# Altium footprint library Mixed_Signal_Board.PcbLib: 37 footprints (part 1 of 3)
Each footprint in its own frame and in the unit in brackets; x right, y up, seen from the top. Pads: shape width x height; smd on the part's side, far side on the other; paste and mask are expansions set on the pad; w line width, h text height; cw(c..) or ccw(c..) is an arc to the next point about the centre after c.
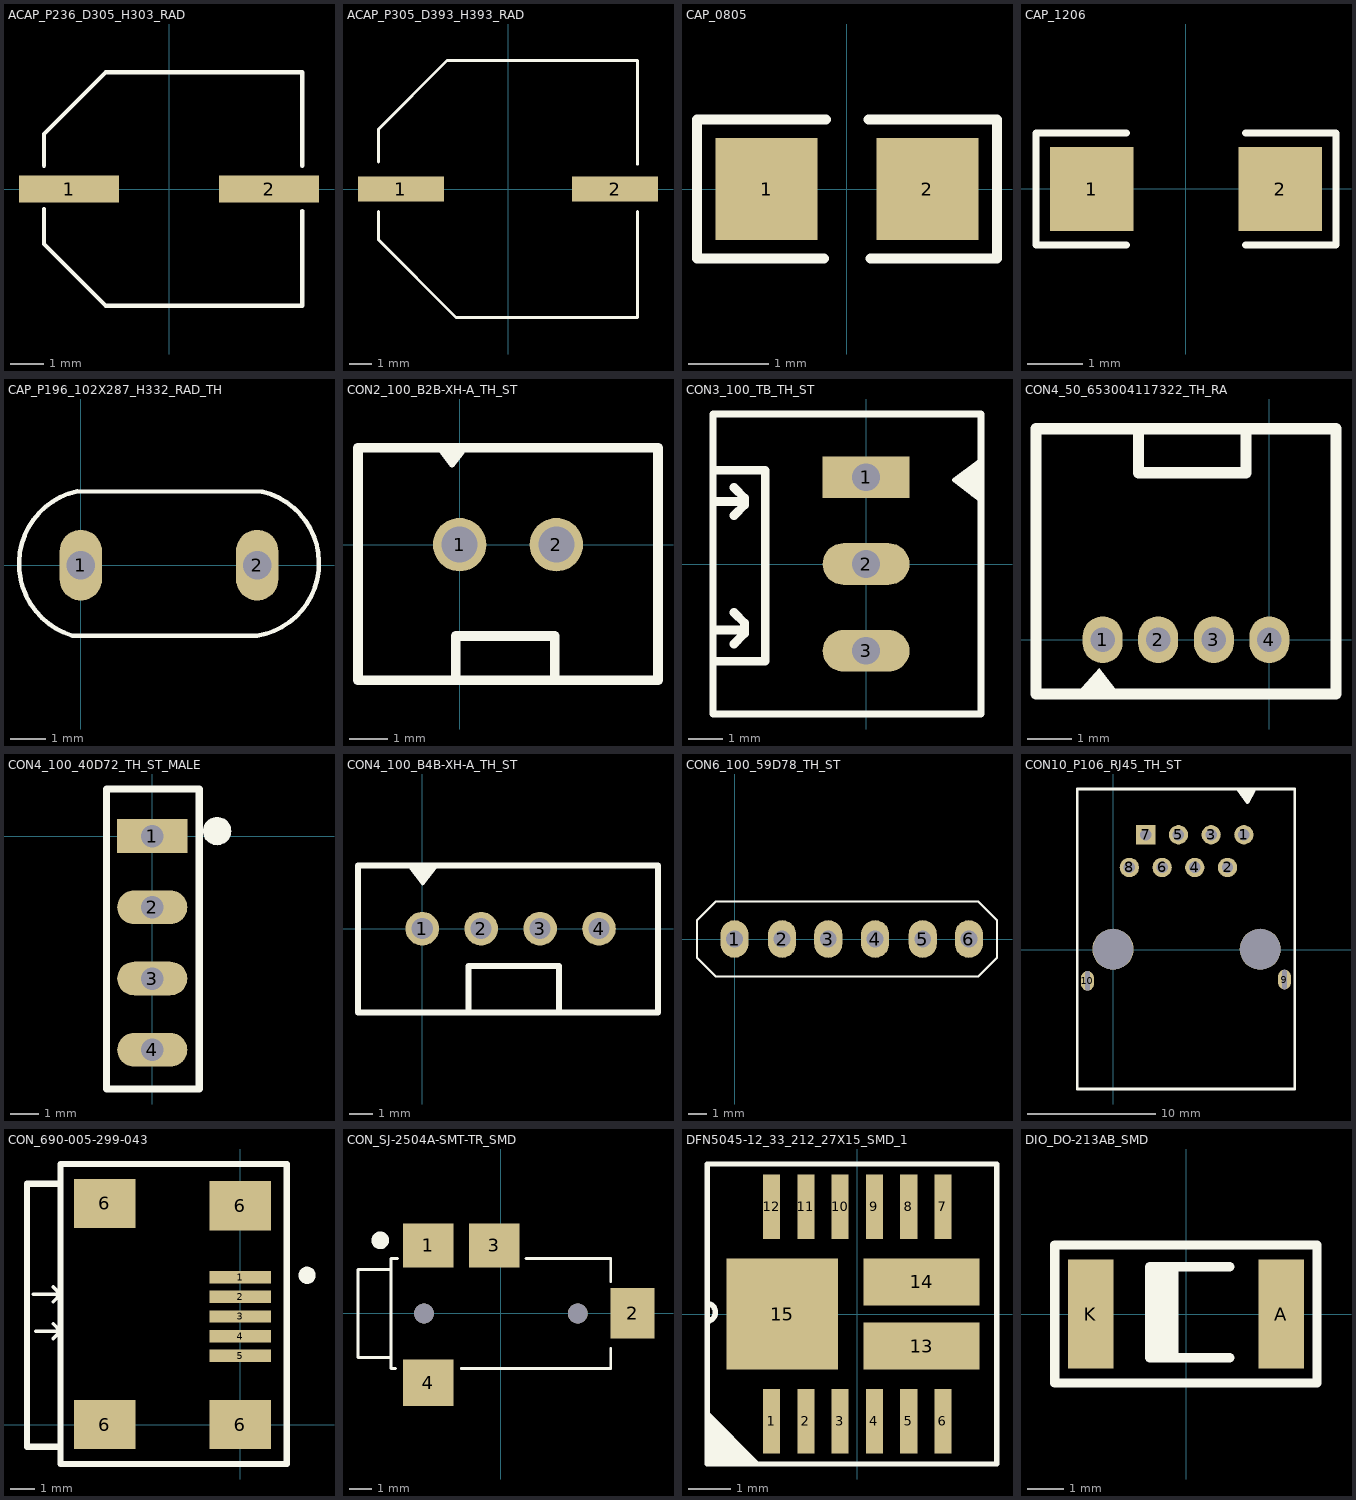
[diagram p0: the footprints below, top view; thin cyan lines are the x and y axes]

## ACAP_P236_D305_H303_RAD [mm]
pads (2):
  rect 3x0.8 smd mask+0.076: 1(-3,0) 2(3,0)
Top Overlay:
  lines w0.127: -3.75,-0.6 -3.75,-1.65 -1.9,-3.5 4,-3.5 4,-1.75 ; -3.75,0.7 -3.75,1.65 -1.9,3.5 0,3.5 4,3.5 4,1.75 ; 4,-1.8 4,-0.66 ; 4,0.7 4,2
3D body "User Library-CC0607.step": height 8.11, standoff 0, extent -3.5,-3.3 3.5,3.3

## ACAP_P305_D393_H393_RAD [mm]
pads (2):
  rect 3.81x1.1 smd: 1(-4.75,0) 2(4.75,0)
Top Overlay:
  lines w0.127: -5.75,-1 -5.75,-2.25 -2.3,-5.7 5.75,-5.7 5.75,-1 ; -5.75,1.2 -5.75,2.65 -2.7,5.7 5.75,5.7 5.75,1.1
3D body "User Library-CC1010.step": height 10.41, standoff 0, extent -5.5,-5.2 5.5,5.2

## CAP_0805 [mm]
pads (2):
  rect 1.27x1.27 smd mask+0.076: 1(-1,0) 2(1,0)
Top Overlay:
  lines w0.127: -0.289,-0.864 -1.864,-0.864 -1.864,0.864 -0.263,0.864 ; 0.27,0.864 1.845,0.864 ; 0.295,-0.864 1.845,-0.864 ; 1.864,-0.864 1.864,0.864
3D body "0805 SMD Capacitor.STEP": height 0.78, standoff 0, extent -1,-0.625 1,0.625

## CAP_1206 [mil]
pads (2):
  rect 60x60 smd: 1(-67.49,-0.2) 2(67.51,-0.2)
Top Overlay:
  lines w5: -42.49,-40.2 -107.49,-40.2 -107.49,39.8 -42.49,39.8 ; 42.51,-40.2 107.51,-40.2 107.51,39.8 42.51,39.8
3D body "1206 SMD Capacitor.STEP": height 39.45, standoff 0, extent -62.99,-31.49 62.99,31.5

## CAP_P196_102X287_H332_RAD_TH [mm]
pads (2):
  oval 1.2x2 hole 0.8 mask+0.076: 1(0,0) 2(5,0)
Top Overlay:
  lines w0.127: -0.243,-1.993 cw(c0.368,0.034) -0.1,2.1 5.131,2.083 ; -0.2,-2 5,-2 ccw(c4.667,0.057) 5.156,2.083
3D body "User Library-CAPML200 (2_5x6_6).step": height 9.14, standoff -3.77, extent -1.037,-1.3 6.037,1.3

## CON2_100_B2B-XH-A_TH_ST [mm]
pads (2):
  round 1.4 hole 0.94: 1(0,0) 2(2.54,0)
Top Overlay:
  region: 0.051,2.464 0.051,2.388 -0.203,2.134 -0.432,2.362 -0.432,2.438
  lines w0.127: -0.508,2.489 -0.203,2.083 0.074,2.44
  lines w0.254: -0.1,-3.556 -0.1,-2.4 2.5,-2.4 2.5,-3.429 ; -2.667,-3.556 5.207,-3.556 5.207,2.54 -2.667,2.54 -2.667,-3.556
3D body "JST 2pin.stp": height 6.85, standoff -3.45, extent -2.415,-3.5 5.015,2.228
3D body "XHP-2.STEP": height 8.44, standoff 0.69, extent -2.35,-3.16 4.95,2.54

## CON3_100_TB_TH_ST [mm]
pads (3):
  rect 2.5x1.2 hole 0.8: 1(0,2.5)
  oval 2.5x1.2 hole 0.8: 2(0,0) 3(0,-2.5)
Top Overlay:
  region: 3.251,2.921 3.251,1.956 3.048,1.956 2.591,2.413
  lines w0.127: 3.277,2.972 2.54,2.419 3.288,1.837
  lines w0.2: -4.4,-4.318 -4.4,4.318 3.302,4.318 3.302,-4.318 -4.4,-4.318
  lines w0.254: -4.3,-2.8 -2.9,-2.8 -2.9,2.7 -4.3,2.7 ; -4.3,-1.9 -3.6,-1.9 ; -4.3,1.8 -3.6,1.8 ; -3.8,-2.3 -3.7,-2.2 -3.5,-2 -3.5,-1.7 -3.8,-1.4 ; -3.8,1.4 -3.5,1.7 -3.5,1.8 -3.5,1.9 -3.8,2.2 ; -3.8,2.2 -3.8,2.2
3D body "65872.stp": height 12.86, standoff 0.01, extent -2.5,-4.07 3.1,4.07

## CON4_50_653004117322_TH_RA [mm]
pads (4):
  oval 0.9x1.05 hole 0.55: 1(-3.75,0) 2(-2.5,0) 3(-1.25,0) 4(0,0)
Top Overlay:
  region: -3.286,-1.342 -4.151,-1.342 -4.308,-1.185 -3.826,-0.639
  lines w0.254: -2.942,3.759 -2.942,4.73 ; -2.916,3.759 -0.524,3.759 -0.524,4.73 ; -5.25,-1.219 -5.25,4.75 1.5,4.75 1.5,-1.219 -5.25,-1.219
3D body "653004117322 (rev1).stp": height 3.65, standoff -2.14, extent -5.275,-0.45 1.475,4.25
3D body "653004113322 (rev1).stp": height 3.38, standoff 0.18, extent -5.275,1.025 1.475,4.975

## CON4_100_40D72_TH_ST_MALE [mm]
pads (5):
  rect 2.5x1.2 hole 0.8: 1(0,0)
  oval 2.5x1.2 hole 0.8: 2(0,-2.54) 3(0,-5.08) 4(0,-7.62)
  round 1.016 on Top Overlay: ""(2.311,0.178)
Top Overlay:
  lines w0.254: -1.626,-9.017 -1.626,1.676 1.676,1.676 1.676,0.914 1.676,-9.017 -1.626,-9.017
3D body "65781.stp": height 8.55, standoff -2.99, extent -1.143,-8.763 1.397,1.397

## CON4_100_B4B-XH-A_TH_ST [mm]
pads (4):
  round 1.45 hole 0.91: 1(0,0) 2(2.54,0) 3(5.08,0) 4(7.62,0)
Top Overlay:
  region: -0.483,2.642 0.483,2.642 0.483,2.438 0.025,1.981
  lines w0.127: -0.533,2.667 0.019,1.93 0.602,2.679
  lines w0.254: 2,-3.531 2,-1.6 ; 5.9,-3.505 5.9,-1.6 2,-1.6 ; 2,-1.6 2,-1.6 ; -2.769,-3.607 10.16,-3.607 10.16,2.718 -2.769,2.718 -2.769,-3.607
3D body "B4B-XH-A.STEP": height 7.25, standoff -3.15, extent -2.4,-3.275 10,2.475
3D body "XHP-4.STEP": height 8.32, standoff 0.57, extent -2.35,-3.225 9.95,2.475

## CON6_100_59D78_TH_ST [mm]
pads (6):
  oval 1.5x2 hole 0.9: 1(0,0) 2(2.54,0) 3(5,0) 4(7.5,0) 5(10.04,0) 6(12.5,0)
Top Overlay:
  lines w0.127: -2,-1 -2,1 ; -2,-1 -1,-2 ; -2,-1 -1,-2 ; -2,-1 -2,1 ; -2,1 -1,2 ; -2,1 -1,2 ; -1,-2 11,-2 ; -1,-2 11,-2 ; -1,2 13,2 ; 11,-2 13,-2 14,-1 14,1 13,2 ; 13,2 13,2
3D body "65787.stp": height 8.55, standoff -2.99, extent -1.346,-1.245 13.894,1.295

## CON10_P106_RJ45_TH_ST [mm]
pads (12):
  round 1.5 hole 0.89 paste-2539.97 mask+0: 1(10.145,8.945) 2(8.875,6.405) 3(7.605,8.945) 4(6.335,6.405) 5(5.065,8.945) 6(3.795,6.405) 8(1.255,6.405)
  rect 1.5x1.5 hole 0.89 paste-2539.97 mask+0: 7(2.525,8.945)
  oval 1x1.524 hole 1.5 slot 0.35 at 0 deg: 9(13.3,-2.3) 10(-2,-2.4)
  round 3.18 hole 3.12 unplated paste-2539.97 mask+0: ""(-0.015,0.055) ""(11.415,0.055)
Top Overlay:
  region: 10.389,11.532 10.389,11.709 9.703,12.395 9.754,12.446 10.947,12.446
  lines w0.2: -2.794,-10.8 14.097,-10.8 14.097,12.497 -2.794,12.497 -2.794,-10.8
  lines w0.254: 9.728,12.421 10.414,11.455 10.958,12.434
3D body "1-406541-5.stp": height 13.04, standoff -4.49, extent -2.528,-3.5 13.728,12.248

## CON_690-005-299-043 [mm]
pads (9):
  rect 2.5x0.5 smd: 1(0,6) 2(0,5.2) 3(0,4.4) 4(0,3.6) 5(0,2.8)
  rect 2.5x2 smd: 6(-5.5,0) 6(-5.5,9) 6(0,0) 6(0,8.9)
Top Overlay:
  circle w0.381: c2.725,6.075 r0.158
  lines w0.152: -8.4,5.3 -7.4,5.3 ; -8.3,3.8 -7.4,3.8 ; -7.6,3.5 -7.3,3.8 -7.6,4.1 ; -7.6,5 -7.3,5.3 -7.6,5.6
  lines w0.254: -8.4,9.8 -7.3,9.8 ; -7.3,-0.9 -8.661,-0.9 -8.661,9.8 -7.3,9.8 ; -7.3,5 -7.3,4.9 ; -7.3,9.7 -7.3,10.6 1.9,10.6 1.9,-1.6 -7.3,-1.6 -7.3,9.8 ; -7.3,4.9 -7.3,4.9
3D body "5889.stp": height 3.96, standoff 0.01, extent -8.4,-0.55 0.6,9.35

## CON_SJ-2504A-SMT-TR_SMD [mm]
pads (6):
  rect 2.3x2 smd: 1(-3.3,3.1) 3(-0.3,3.1)
  rect 2x2.3 smd: 2(6,0)
  rect 2.3x2.1 smd: 4(-3.3,-3.15)
  round 0.9 hole 0.9 unplated: ""(-3.5,0) ""(3.5,0)
Top Overlay:
  circle w0.4: c-5.486,3.327 r0.2
  lines w0.127: -4.8,-2.5 -5,-2.5 -5,-2 ; -4.7,2.5 -5,2.5 -5,2 ; -1.8,-2.5 5,-2.5 5,-1.6 ; 1.15,2.5 5,2.5 5,1.45 ; -5,-2 -5,2 ; -5,-2 -6.5,-2 -6.5,2 -5,2
3D body "User Library-JY2512.step": height 4.01, standoff -0.79, extent -6.5,-4 6.5,4

## DFN5045-12_33_212_27X15_SMD_1 [mm]
pads (15):
  rect 0.4x1.5 smd: 1(-2,-2.5) 2(-1.2,-2.5) 3(-0.4,-2.5) 4(0.4,-2.5) 5(1.2,-2.5) 6(2,-2.5) 7(2,2.5) 8(1.2,2.5) 9(0.4,2.5) 10(-0.4,2.5) 11(-1.2,2.5) 12(-2,2.5)
  rect 2.7x1.1 smd: 13(1.5,-0.75) 14(1.5,0.75)
  rect 2.6x2.6 smd: 15(-1.75,0)
Top Overlay:
  region: -3.5,-2.25 -2.25,-3.5 -3.5,-3.5
  lines w0.127: -3.5,0.25 cw(c-3.519,0.041) -3.478,-0.164 ; -3.5,-3.5 3.25,-3.5 3.25,3.5 -3.5,3.5 -3.5,-3.5
3D body "DMHT6016LFJ-13.stp": height 0.9, standoff 0, extent -2.5,-2.36 2.5,2.36

## DIO_DO-213AB_SMD [mm]
pads (2):
  rect 1.25x3 smd: A(2.625,0) K(-2.625,0)
Top Overlay:
  rectangle: -1,-1.2 -0.2,1.3
  lines w0.254: 1.2,-1.2 -1,-1.2 -1,1.3 1.2,1.3 ; -3.607,-1.9 3.6,-1.9 3.6,1.9 -3.607,1.9 -3.607,-1.9
3D body "User Library-MELF.STEP": height 2.75, standoff 0.25, extent -2.487,-1.25 2.513,1.25